# Altium footprint library GRM21BR61A226ME44L.PcbLib: 3 footprints
Each footprint in its own frame and in the unit in brackets; x right, y up, seen from the top. Pads: shape width x height; smd on the part's side, far side on the other; paste and mask are expansions set on the pad; w line width, h text height; cw(c..) or ccw(c..) is an arc to the next point about the centre after c.
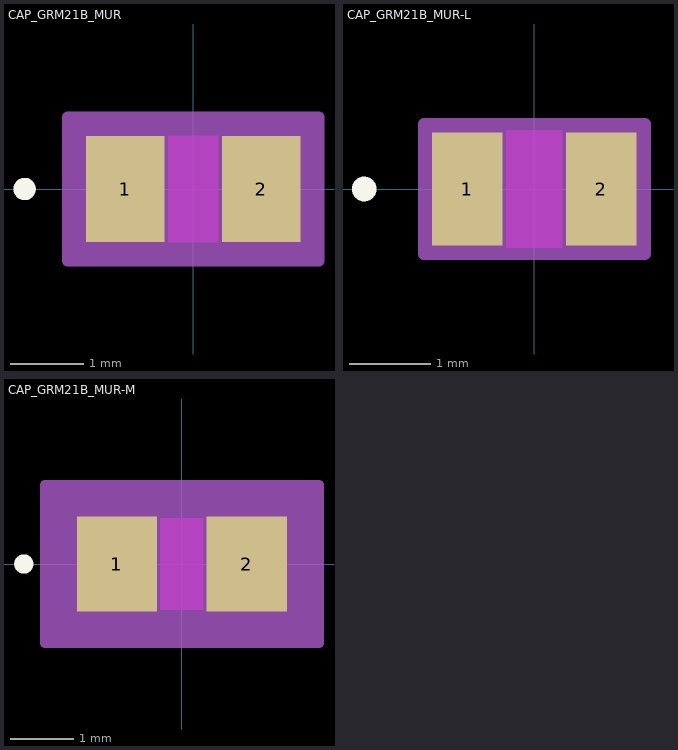
[diagram p0: the footprints below, top view; thin cyan lines are the x and y axes]

## CAP_GRM21B_MUR [mil]
pads (2):
  rect 42x57 smd paste+0 mask+0: 1(-36.5,0) 2(36.5,0)
Top Layer keep-out:
  region: -13.5,-26.5 -13.5,26.5 13.5,26.5 13.5,-26.5
Top Overlay:
  circle w6: c-90.5,0 r3
  text ".Designator" at -137.5,-25 h50
Keep-Out Layer:
  region: -13.5,-28.5 -13.5,28.5 13.5,28.5 13.5,-28.5
Mechanical 13:
  circle w1: c-31.5,0 r3
  lines w1: -43.5,-28.5 -43.5,28.5 ; -43.5,-28.5 -15.5,-28.5 -15.5,28.5 -43.5,28.5 ; -43.5,-28.5 43.5,-28.5 ; -43.5,-28.5 -43.5,28.5 ; -43.5,28.5 43.5,28.5 ; 43.5,-28.5 15.5,-28.5 15.5,28.5 43.5,28.5 ; 43.5,-28.5 43.5,28.5 ; 43.5,-28.5 43.5,28.5
  text ".Designator" at -137.5,-25 h50
Mechanical 15:
  region: 67.5,-38.5 -67.5,-38.5 -67.5,38.5 67.5,38.5
  lines w6: -67.5,-38.5 -67.5,38.5 67.5,38.5 67.5,-38.5 -67.5,-38.5
3D body "CAP_GRM21B_MUR.step": height 57.01, standoff 0, extent -43.5,-28.5 43.5,28.5

## CAP_GRM21B_MUR-L [mil]
pads (2):
  rect 34x55 smd paste+0 mask+0: 1(-32.5,0) 2(32.5,0)
Top Layer keep-out:
  region: -13.5,-26.5 -13.5,26.5 13.5,26.5 13.5,-26.5
Top Overlay:
  circle w6: c-82.5,0 r3
  text ".Designator" at -137.5,-25 h50
Keep-Out Layer:
  region: -13.5,-28.5 -13.5,28.5 13.5,28.5 13.5,-28.5
Mechanical 13:
  circle w1: c-27.5,0 r3
  lines w1: -43.5,-28.5 -43.5,28.5 ; -43.5,-28.5 -15.5,-28.5 -15.5,28.5 -43.5,28.5 ; -43.5,-28.5 43.5,-28.5 ; -43.5,-28.5 -43.5,28.5 ; -43.5,28.5 43.5,28.5 ; 43.5,-28.5 15.5,-28.5 15.5,28.5 43.5,28.5 ; 43.5,-28.5 43.5,28.5 ; 43.5,-28.5 43.5,28.5
  text ".Designator" at -137.5,-25 h50
Mechanical 15:
  region: 53.5,-31.5 -53.5,-31.5 -53.5,31.5 53.5,31.5
  lines w6: -53.5,-31.5 -53.5,31.5 53.5,31.5 53.5,-31.5 -53.5,-31.5
3D body "CAP_GRM21B_MUR.step": height 57.01, standoff 0, extent -43.5,-28.5 43.5,28.5

## CAP_GRM21B_MUR-M [mil]
pads (2):
  rect 50x59 smd paste+0 mask+0: 1(-40.5,0) 2(40.5,0)
Top Layer keep-out:
  region: -13.5,-26.5 -13.5,26.5 13.5,26.5 13.5,-26.5
Top Overlay:
  circle w6: c-98.5,0 r3
  text ".Designator" at -137.5,-25 h50
Keep-Out Layer:
  region: -13.5,-28.5 -13.5,28.5 13.5,28.5 13.5,-28.5
Mechanical 13:
  circle w1: c-35.5,0 r3
  lines w1: -43.5,-28.5 -43.5,28.5 ; -43.5,-28.5 -15.5,-28.5 -15.5,28.5 -43.5,28.5 ; -43.5,-28.5 43.5,-28.5 ; -43.5,-28.5 -43.5,28.5 ; -43.5,28.5 43.5,28.5 ; 43.5,-28.5 15.5,-28.5 15.5,28.5 43.5,28.5 ; 43.5,-28.5 43.5,28.5 ; 43.5,-28.5 43.5,28.5
  text ".Designator" at -137.5,-25 h50
Mechanical 15:
  region: 85.5,-49.5 -85.5,-49.5 -85.5,49.5 85.5,49.5
  lines w6: -85.5,-49.5 -85.5,49.5 85.5,49.5 85.5,-49.5 -85.5,-49.5
3D body "CAP_GRM21B_MUR.step": height 57.01, standoff 0, extent -43.5,-28.5 43.5,28.5